# Altium schematic symbol library Texas_Instruments_SN65220DBVR.SchLib: 1 symbol
Pins are listed as number, name and electrical type; pins without a type are passive.

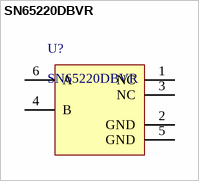
[diagram p0: symbol SN65220DBVR]

## SN65220DBVR
designator U?
Single Universal Serial Bus Port Transient Suppressor, 2 Channels, -40 to +85 degC, 6-pin SOT-23 (DBV), Green (RoHS & no Sb/Br); Manufacturer: Texas Instruments; IO Capacitance(Typ)(pF): 35; IO Leakage Current(nA): 1000; Breakdown Voltage(Min)(V): 7; USB Full Speed: TRUE; SubFamily: ESD Solution; ComponentLink1Description: Datasheet; ComponentLink2Description: URL Link1; PartNumber: SN65220DBVR; DatasheetVersion: SLLS266G; ComponentLink1URL: http://www.ti.com/general/docs/lit/getliterature.tsp?genericPartNumber=SN65220&fileType=pdf; Code_JEDEC: MO-178-AB*; PackageVersion: revK, Mar-2006; Eco-Plan: Green (RoHS & no Sb/Br); Mounting Technology: Surface Mount; PackageDescription: 6-Pin Plastic Small-Outline Package, 2.9 x 1.6 mm Body, 0.95 mm Pitch, 2.8 mm Lead Span; ComponentLink2URL: SamplesURL:http://www.ti.com/product/sn65220#samples; PackageReference: DBV6
footprint DBV6_L
footprint DBV6_M
footprint DBV6_N
pins: 1 NC, 2 GND (power), 3 NC, 4 B, 5 GND (power), 6 A